# Altium schematic symbol library Term,Power,Vert Entry,PCB Mount.Schlib: 1 symbol
Pins are listed as number, name and electrical type; pins without a type are passive.

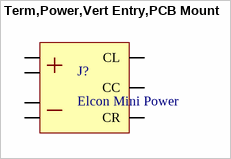
[diagram p0: symbol Term,Power,Vert Entry,PCB Mount]

## Term,Power,Vert Entry,PCB Mount
designator J?, comment Elcon Mini Power
Connector Header, Male Blades Through Hole Black
pins: 1 +, 1 +, 2 -, 2 -, 3 CL, 4 CC, 5 CR